# Altium footprint library CAP_ELEC_G_PAN.PcbLib: 1 footprints
Each footprint in its own frame and in the unit in brackets; x right, y up, seen from the top. Pads: shape width x height; smd on the part's side, far side on the other; paste and mask are expansions set on the pad; w line width, h text height; cw(c..) or ccw(c..) is an arc to the next point about the centre after c.
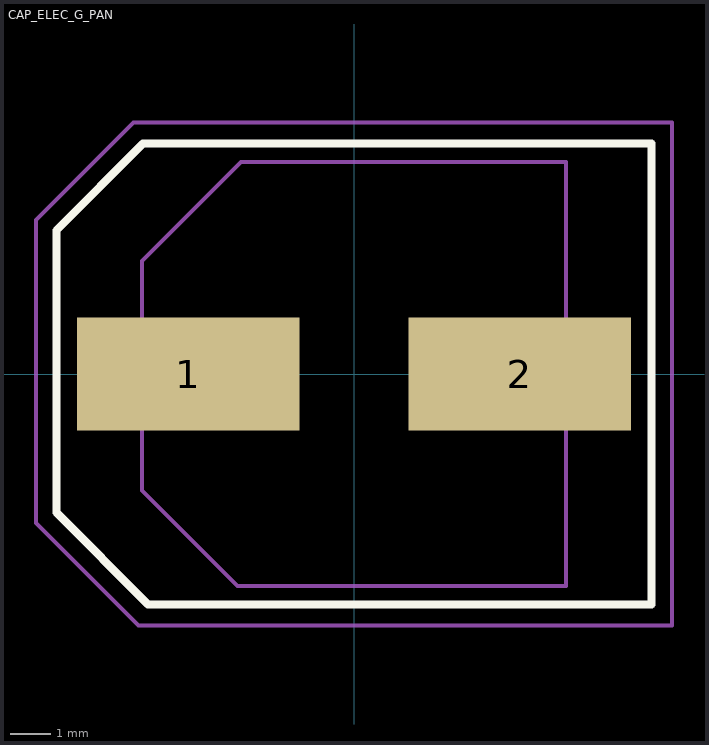
[diagram p0: the footprint, top view; thin cyan lines are the x and y axes]

## CAP_ELEC_G_PAN [mm]
height 10.5
pads (2):
  rect 5.5x2.8 smd: 1(-4.1,0) 2(4.1,0)
Top Overlay:
  lines w0.2: -7.366,-3.429 -5.095,-5.7 7.366,-5.7 7.366,5.7 -5.222,5.7 -7.366,3.556 -7.366,-0.635 -7.366,-2.794 -7.366,-3.429
Mechanical 13:
  lines w0.1: -5.25,-2.878 -5.25,2.794 -2.794,5.25 5.25,5.25 5.25,-5.25 -2.878,-5.25 -5.25,-2.878
Mechanical 15:
  lines w0.1: -7.874,-3.683 -7.874,3.81 -5.461,6.223 -5.08,6.223 7.874,6.223 7.874,-6.223 -5.334,-6.223 -7.874,-3.683
3D body: height 10.5, standoff 0, extent -5.9,-5.15 5.8,5.15